# Altium schematic symbol library C0603C911F5GACTU.SchLib: 1 symbol
Pins are listed as number, name and electrical type; pins without a type are passive.

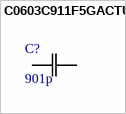
[diagram p0: symbol C0603C911F5GACTU]

## C0603C911F5GACTU
designator C?, comment 901p
SMD Comm C0G, Ceramic, 910 pF, 1%, 50 VDC, C0G, SMD, MLCC, Ultra-Stable, Low Loss, Class I, 0603; Manufacturer_Name: Kemet; Manufacturer_Part_Number: C0603C911F5GACTU; Copyright: Copyright (C) 2025 Ultra Librarian. All rights reserved.; Datasheet: https://content.kemet.com/datasheets/KEM_C1003_C0G_SMD.pdf
footprint CAPC17595_87N_KEM
pins: 1, 2